# EAGLE library part AD707 (library opamps)
AD707: Low drift opamp (Analog Devices) ±15V, 4nA bias 100µV offset, 400kHz UGF, 11nV/rt(Hz) noise
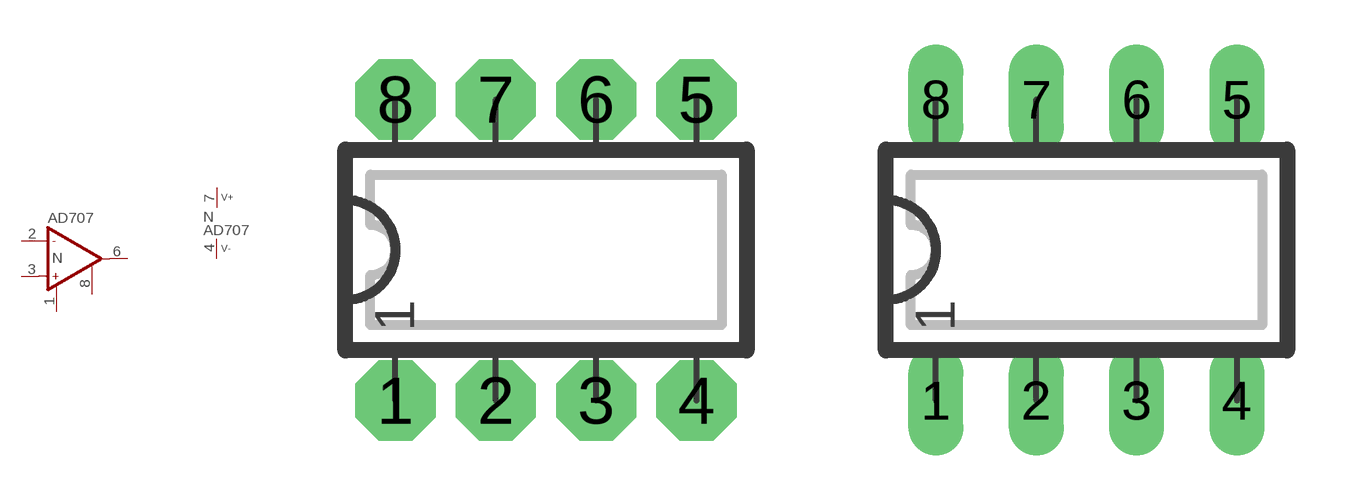
[diagram p8: symbol with the pads of DIP08N; footprints DIP08N, DIP08L]

Designator prefix N; gates A=OP_C P=V+-

## AD707N  [DIP08N]
1  A:OPC1
2  A:IN-  in
3  A:IN+  in
4  P:V-  pwr
6  A:OUT  out
7  P:V+  pwr
8  A:OPC2

## AD707L  [DIP08L]
Pads as for DIP08N

## AD707R  [DIP08R]
Pads as for DIP08N

## AD707S  [SO08]
Pads as for DIP08N

## AD707T  [TO99]
Pads as for DIP08N

## AD707  [DIP08L]
Pads as for DIP08N

## Footprint DIP08N (pad centres in mm)
DIP-8 Standard IC package, 8 pins
drill 0.813 pad 2.032 octagon: 1 -3.81,-3.81; 2 -1.27,-3.81; 3 1.27,-3.81; 4 3.81,-3.81; 5 3.81,3.81; 6 1.27,3.81; 7 -1.27,3.81; 8 -3.81,3.81

## Footprint DIP08L (pad centres in mm)
DIP-8, long pads Standard IC package, 8 pins
drill 0.813 pad 1.397 long: 1 -3.81,-3.81; 2 -1.27,-3.81; 3 1.27,-3.81; 4 3.81,-3.81; 5 3.81,3.81; 6 1.27,3.81; 7 -1.27,3.81; 8 -3.81,3.81

## Footprint DIP08R (pad centres in mm)
DIP-8, reduced pads Standard IC package, 8 pins
drill 0.813 pad 1.397 square: 1 -3.81,-3.81; 2 -1.27,-3.81; 3 1.27,-3.81; 4 3.81,-3.81; 5 3.81,3.81; 6 1.27,3.81; 7 -1.27,3.81; 8 -3.81,3.81

## Footprint SO08 (pad centres in mm)
SO-8, SMD SOIC IC package, 8 pins
smd 0.635 x 1.778: 1 -1.905,-2.857; 2 -0.635,-2.857; 3 0.635,-2.857; 4 1.905,-2.857; 5 1.905,2.857; 6 0.635,2.857; 7 -0.635,2.857; 8 -1.905,2.857

## Footprint TO99 (pad centres in mm)
TO-99 Metal can package, 8 pins
drill 0.813 pad 1.397 octagon: 1 -1.778,1.778; 2 -2.54,0; 3 -1.778,-1.778; 4 0,-2.54; 5 1.778,-1.778; 6 2.54,0; 7 1.778,1.778; 8 0,2.54